# EAGLE library part MICS-4514 (library wicked-device)
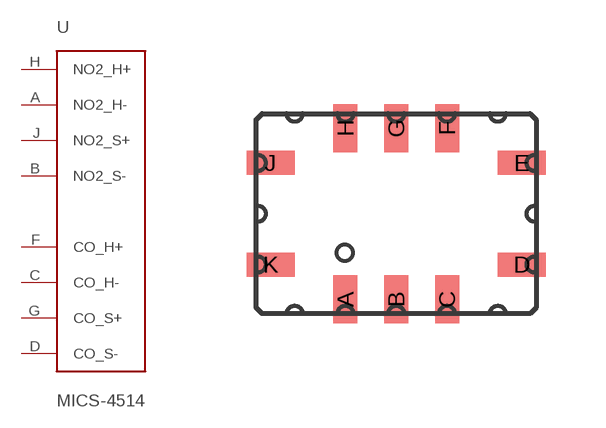
[diagram p10: symbol with the pads of MICS-4514; footprint MICS-4514]

Designator prefix -

## MICS-4514  [MICS-4514]
A  NO2_H-
B  NO2_S-
C  CO_H-
D  CO_S-
F  CO_H+
G  CO_S+
H  NO2_H+
J  NO2_S+

## Footprint MICS-4514 (pad centres in mm)
smd 0.6 x 1.203: A -1.27,-2.142; B 0,-2.142; C 1.27,-2.142; F 1.27,2.142; G 0,2.142; H -1.27,2.142
smd 1.203 x 0.6: D 3.142,-1.27; E 3.142,1.27; J -3.142,1.27; K -3.142,-1.27